# Altium footprint library SparkFun-Jumpers.PCBLIB: 20 footprints (part 1 of 2)
Each footprint in its own frame and in the unit in brackets; x right, y up, seen from the top. Pads: shape width x height; smd on the part's side, far side on the other; paste and mask are expansions set on the pad; w line width, h text height; cw(c..) or ccw(c..) is an arc to the next point about the centre after c.
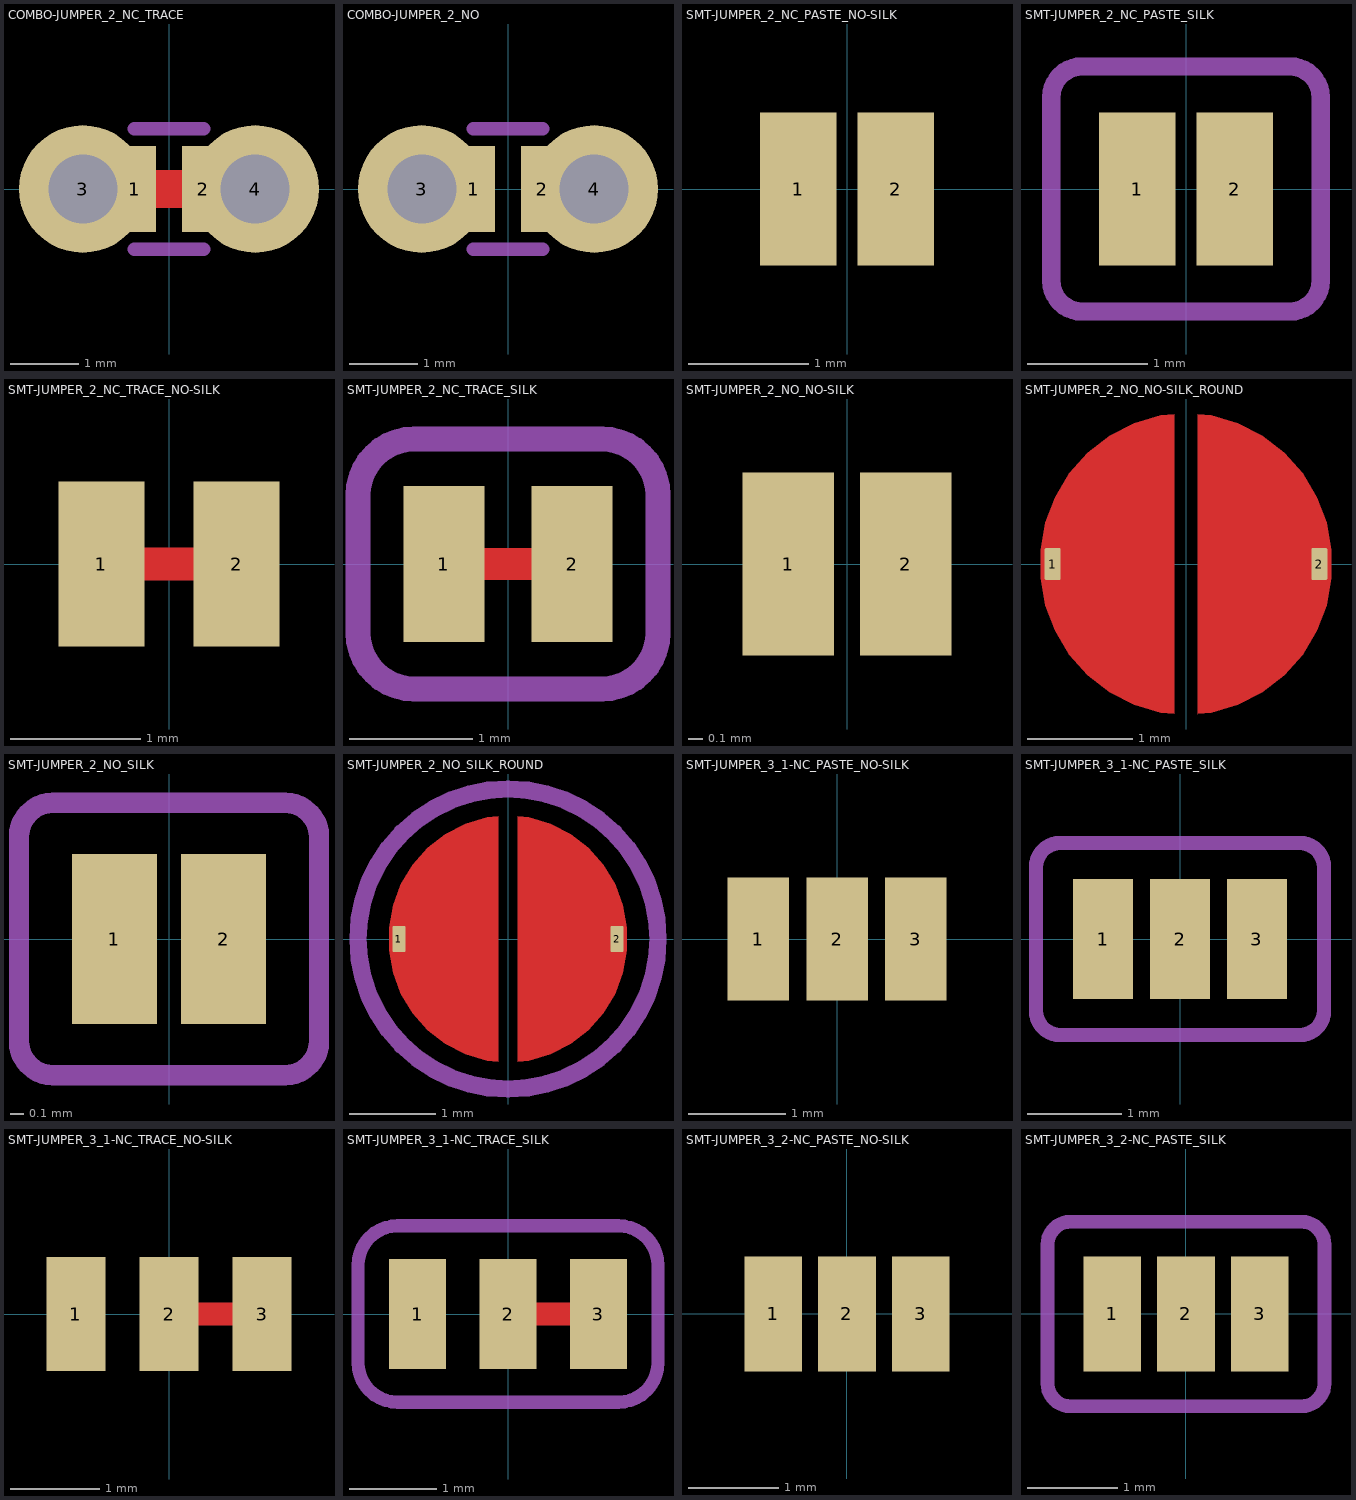
[diagram p0: the footprints below, top view; thin cyan lines are the x and y axes]

## COMBO-JUMPER_2_NC_TRACE [mil]
pads (4):
  rect 25x50 smd paste+0: 1(-20,0) 2(20,0)
  round 74 hole 40: 3(-50,0) 4(50,0)
Top:
  region: -27.5,11 1,11 1,-11 -27.5,-11
  region: -1,11 27.5,11 27.5,-11 -1,-11
Top Solder:
  region: -7.5,26 7.5,26 7.5,-26 -7.5,-26
tDocu:
  region: 40,-10 40,10 60,10 60,-10
  region: -60,-10 -60,10 -40,10 -40,-10
tPlace:
  lines w8: -20,-35 20,-35 ; -20,35 20,35

## COMBO-JUMPER_2_NO [mil]
pads (4):
  rect 25x50 smd paste+0: 1(-20,0) 2(20,0)
  round 74 hole 40: 3(-50,0) 4(50,0)
Top Solder:
  region: -7.5,26 7.5,26 7.5,-26 -7.5,-26
tDocu:
  region: 40,-10 40,10 60,10 60,-10
  region: -60,-10 -60,10 -40,10 -40,-10
tPlace:
  lines w8: -20,-35 20,-35 ; -20,35 20,35

## SMT-JUMPER_2_NC_PASTE_NO-SILK [mil]
pads (2):
  rect 25x50 smd paste+0: 1(-16,0) 2(16,0)
Top Paste:
  region: -49,-44 -49,44 49,44 49,-44

## SMT-JUMPER_2_NC_PASTE_SILK [mil]
pads (2):
  rect 25x50 smd paste+0: 1(-16,0) 2(16,0)
Top Paste:
  region: -49,-44 -49,44 49,44 49,-44
tPlace:
  lines w6: -44,-30 ccw(c-34,-30) -34,-40 34,-40 ccw(c34,-30) 44,-30 44,30 ccw(c34,30) 34,40 -34,40 ccw(c-34,30) -44,30 -44,-30

## SMT-JUMPER_2_NC_TRACE_NO-SILK [mil]
pads (2):
  rect 26x50 smd paste+0: 1(-20.5,0) 2(20.5,0)
Top:
  region: -27.5,5 1,5 1,-5 -27.5,-5
  region: -1,5 27.5,5 27.5,-5 -1,-5
Top Solder:
  region: -7.5,5 7.5,5 7.5,-5 -7.5,-5

## SMT-JUMPER_2_NC_TRACE_SILK [mil]
pads (2):
  rect 26x50 smd paste+0: 1(-20.5,0) 2(20.5,0)
Top:
  region: -27.5,5 1,5 1,-5 -27.5,-5
  region: -1,5 27.5,5 27.5,-5 -1,-5
Top Solder:
  region: -7.5,5 7.5,5 7.5,-5 -7.5,-5
tPlace:
  lines w8: -48,-22 ccw(c-30,-22) -30,-40 30,-40 ccw(c30,-22) 48,-22 48,22 ccw(c30,22) 30,40 -30,40 ccw(c-30,22) -48,22 -48,-22

## SMT-JUMPER_2_NO_NO-SILK [mil]
pads (2):
  rect 25x50 smd paste+0: 1(-16,0) 2(16,0)

## SMT-JUMPER_2_NO_NO-SILK_ROUND [mil]
pads (2):
  rrect20% 6x12 smd paste+0 mask+0: 1(-50,0) 2(50,0)
Top:
  region: 4.38,-56.25 9.53,-55.72 19.46,-52.78 28.68,-48.06 36.88,-41.72 43.76,-33.98 49.09,-25.1 52.7,-15.39 54.46,-5.18 54.38,0 54.46,5.18 52.7,15.39 49.09,25.1 43.76,33.98 36.88,41.72 28.68,48.06 19.46,52.78 9.53,55.72 4.38,56.25
  region: -4.38,56.25 -4.38,-56.25 -9.53,-55.72 -19.46,-52.78 -28.68,-48.06 -36.88,-41.72 -43.76,-33.98 -49.09,-25.1 -52.7,-15.39 -54.46,-5.18 -54.38,0 -54.46,5.18 -52.7,15.39 -49.09,25.1 -43.76,33.98 -36.88,41.72 -28.68,48.06 -19.46,52.78 -9.53,55.72 -4.38,56.25
Top Solder:
  region: 0,56.25 5.54,56.25 16.41,54.09 26.64,49.85 35.86,43.69 43.69,35.86 49.85,26.64 54.09,16.41 56.25,5.54 56.25,0 56.25,-5.54 54.09,-16.41 49.85,-26.64 43.69,-35.86 35.86,-43.69 26.64,-49.85 16.41,-54.09 5.54,-56.25 0,-56.25 -5.54,-56.25 -16.41,-54.09 -26.64,-49.85 -35.86,-43.69 -43.69,-35.86 -49.85,-26.64 -54.09,-16.41 -56.25,-5.54 -56.25,0 -56.25,5.54 -54.09,16.41 -49.85,26.64 -43.69,35.86 -35.86,43.69 -26.64,49.85 -16.41,54.09 -5.54,56.25 0,56.25

## SMT-JUMPER_2_NO_SILK [mil]
pads (2):
  rect 25x50 smd paste+0: 1(-16,0) 2(16,0)
tPlace:
  lines w6: -44,-30 ccw(c-34,-30) -34,-40 34,-40 ccw(c34,-30) 44,-30 44,30 ccw(c34,30) 34,40 -34,40 ccw(c-34,30) -44,30 -44,-30

## SMT-JUMPER_2_NO_SILK_ROUND [mil]
pads (2):
  rrect20% 6x12 smd paste+0 mask+0: 1(-50,0) 2(50,0)
Top:
  region: 4.38,-56.25 9.53,-55.72 19.46,-52.78 28.68,-48.06 36.88,-41.72 43.76,-33.98 49.09,-25.1 52.7,-15.39 54.46,-5.18 54.38,0 54.46,5.18 52.7,15.39 49.09,25.1 43.76,33.98 36.88,41.72 28.68,48.06 19.46,52.78 9.53,55.72 4.38,56.25
  region: -4.38,56.25 -4.38,-56.25 -9.53,-55.72 -19.46,-52.78 -28.68,-48.06 -36.88,-41.72 -43.76,-33.98 -49.09,-25.1 -52.7,-15.39 -54.46,-5.18 -54.38,0 -54.46,5.18 -52.7,15.39 -49.09,25.1 -43.76,33.98 -36.88,41.72 -28.68,48.06 -19.46,52.78 -9.53,55.72 -4.38,56.25
Top Solder:
  region: 0,56.25 5.54,56.25 16.41,54.09 26.64,49.85 35.86,43.69 43.69,35.86 49.85,26.64 54.09,16.41 56.25,5.54 56.25,0 56.25,-5.54 54.09,-16.41 49.85,-26.64 43.69,-35.86 35.86,-43.69 26.64,-49.85 16.41,-54.09 5.54,-56.25 0,-56.25 -5.54,-56.25 -16.41,-54.09 -26.64,-49.85 -35.86,-43.69 -43.69,-35.86 -49.85,-26.64 -54.09,-16.41 -56.25,-5.54 -56.25,0 -56.25,5.54 -54.09,16.41 -49.85,26.64 -43.69,35.86 -35.86,43.69 -26.64,49.85 -16.41,54.09 -5.54,56.25 0,56.25
tPlace:
  circle w8: c0,0 r68.75

## SMT-JUMPER_3_1-NC_PASTE_NO-SILK [mil]
pads (3):
  rect 25x50 smd paste+0: 1(-32,0) 2(0,0) 3(32,0)
Top Paste:
  region: -16,-44 -16,44 65,44 65,-44

## SMT-JUMPER_3_1-NC_PASTE_SILK [mil]
pads (3):
  rect 25x50 smd paste+0: 1(-32,0) 2(0,0) 3(32,0)
Top Paste:
  region: -16,-44 -16,44 65,44 65,-44
tPlace:
  lines w6: -60,-30 ccw(c-50,-30) -50,-40 50,-40 ccw(c50,-30) 60,-30 60,30 ccw(c50,30) 50,40 -50,40 ccw(c-50,30) -60,30 -60,-30

## SMT-JUMPER_3_1-NC_TRACE_NO-SILK [mil]
pads (3):
  rect 26x50 smd paste+0: 1(-41,0) 2(0,0) 3(41,0)
Top:
  region: -7.5,5 21,5 21,-5 -7.5,-5
  region: 20,5 48.5,5 48.5,-5 20,-5
Top Solder:
  region: 12.5,5 27.5,5 27.5,-5 12.5,-5

## SMT-JUMPER_3_1-NC_TRACE_SILK [mil]
pads (3):
  rect 26x50 smd paste+0: 1(-41,0) 2(0,0) 3(41,0)
Top:
  region: -7.5,5 21,5 21,-5 -7.5,-5
  region: 20,5 48.5,5 48.5,-5 20,-5
Top Solder:
  region: 12.5,5 27.5,5 27.5,-5 12.5,-5
tPlace:
  lines w6: -68,-22 ccw(c-50,-22) -50,-40 50,-40 ccw(c50,-22) 68,-22 68,22 ccw(c50,22) 50,40 -50,40 ccw(c-50,22) -68,22 -68,-22

## SMT-JUMPER_3_2-NC_PASTE_NO-SILK [mil]
pads (3):
  rect 25x50 smd paste+0: 1(-32,0) 2(0,0) 3(32,0)
Top Paste:
  region: -65,-44 -65,44 65,44 65,-44

## SMT-JUMPER_3_2-NC_PASTE_SILK [mil]
pads (3):
  rect 25x50 smd paste+0: 1(-32,0) 2(0,0) 3(32,0)
Top Paste:
  region: -65,-44 -65,44 65,44 65,-44
tPlace:
  lines w6: -60,-30 ccw(c-50,-30) -50,-40 50,-40 ccw(c50,-30) 60,-30 60,30 ccw(c50,30) 50,40 -50,40 ccw(c-50,30) -60,30 -60,-30